# Altium integrated library Passive.IntLib: 1327 symbols (part 7 of 10)
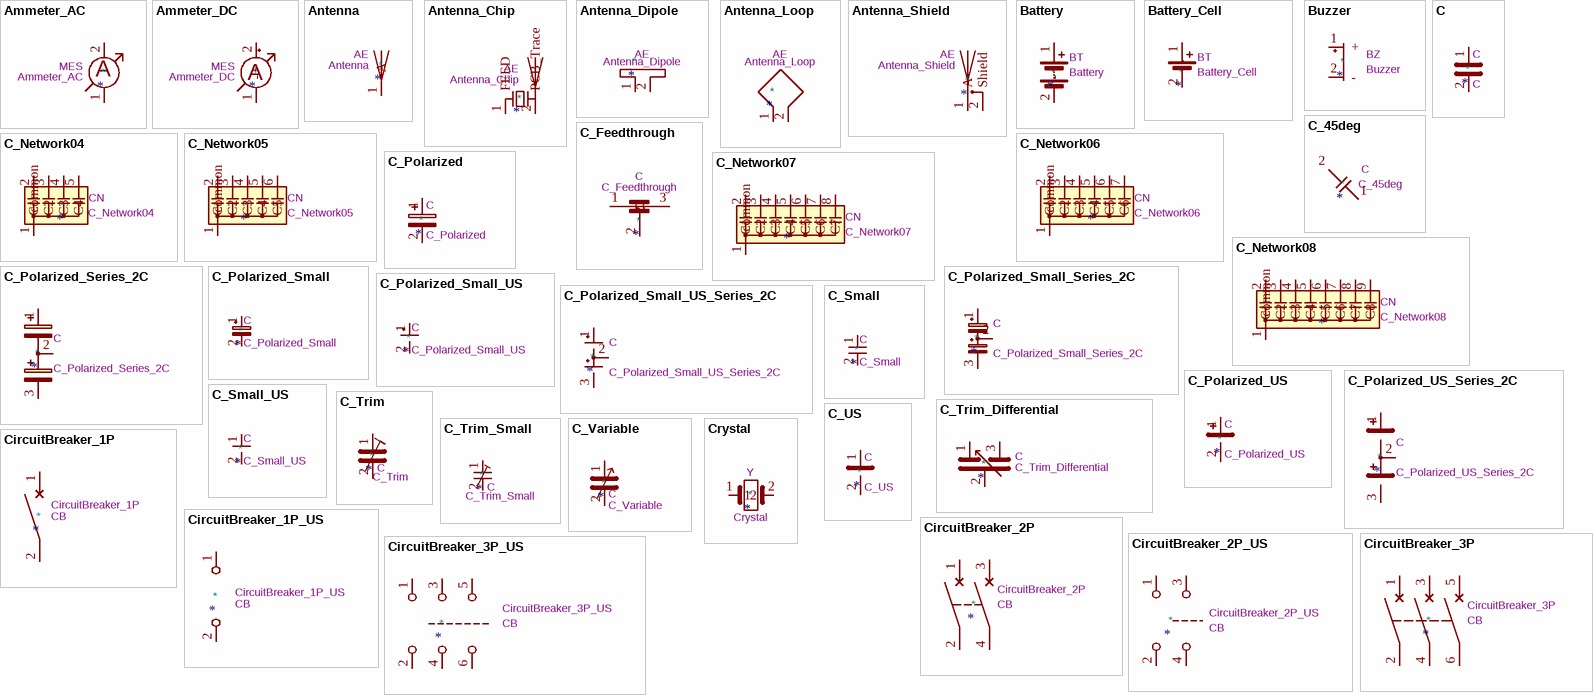
[diagram p47: symbols Ammeter_AC to Crystal]

## CircuitBreaker_1P_US
designator *  value CircuitBreaker_1P_US  Reference: CB
Single pole circuit breaker, US symbol; Datasheet: ~; Description_: Single pole circuit breaker, US symbol; ki_keywords: CB
pins: 1, 2

## CircuitBreaker_2P
designator *  value CircuitBreaker_2P  Reference: CB
Double pole circuit breaker; ki_keywords: CB 2P; Datasheet: ~; Description_: Double pole circuit breaker
pins: 1, 2, 3, 4

## CircuitBreaker_2P_US
designator *  value CircuitBreaker_2P_US  Reference: CB
Double pole circuit breaker, US symbol; ki_keywords: CB 2P; Datasheet: ~; Description_: Double pole circuit breaker, US symbol
pins: 1, 2, 3, 4

## CircuitBreaker_3P
designator *  value CircuitBreaker_3P  Reference: CB
Triple pole circuit breaker; ki_keywords: CB 3P; Datasheet: ~; Description_: Triple pole circuit breaker
pins: 1, 2, 3, 4, 5, 6

## CircuitBreaker_3P_US
designator *  value CircuitBreaker_3P_US  Reference: CB
Triple pole circuit breaker, US symbol; ki_keywords: CB 3P; Datasheet: ~; Description_: Triple pole circuit breaker, US symbol
pins: 1, 2, 3, 4, 5, 6

## Crystal
designator *  value Crystal  Reference: Y
Two pin crystal; ki_keywords: quartz ceramic resonator oscillator; ki_fp_filters: Crystal*; Datasheet: ~; Description_: Two pin crystal
pins: 1, 2

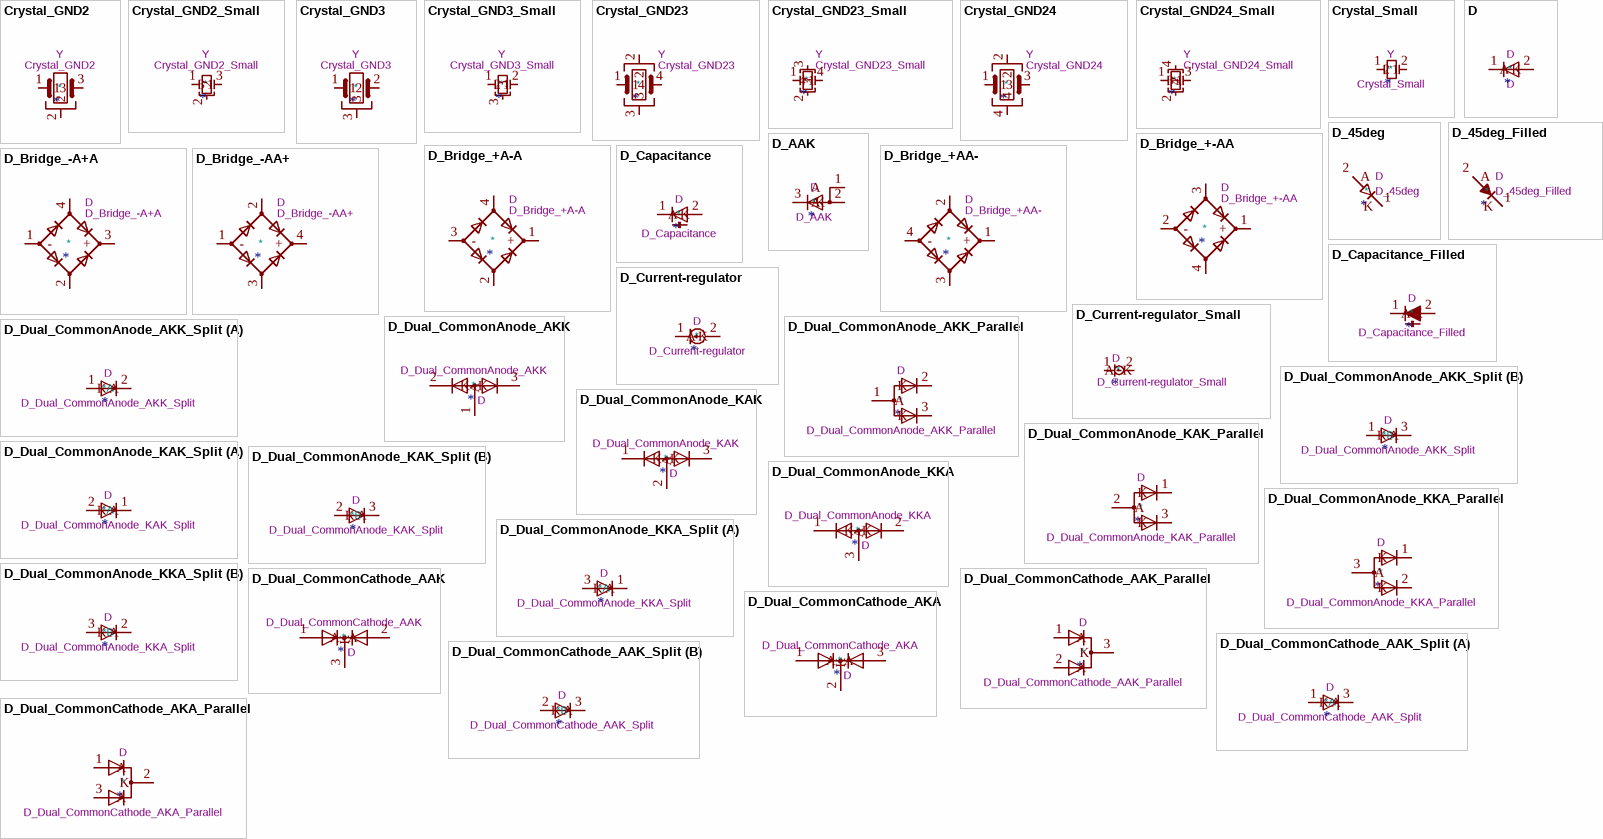
[diagram p22: symbols Crystal_GND2 to D_Dual_CommonCathode_AKA_Parallel]

## Crystal_GND2
designator *  value Crystal_GND2  Reference: Y
Three pin crystal, GND on pin 2; ki_keywords: quartz ceramic resonator oscillator; ki_fp_filters: Crystal*; Datasheet: ~; Description_: Three pin crystal, GND on pin 2
pins: 1, 2, 3

## Crystal_GND2_Small
designator *  value Crystal_GND2_Small  Reference: Y
Three pin crystal, GND on pin 2, small symbol; ki_keywords: quartz ceramic resonator oscillator; ki_fp_filters: Crystal*; Datasheet: ~; Description_: Three pin crystal, GND on pin 2, small symbol
pins: 1, 2, 3

## Crystal_GND3
designator *  value Crystal_GND3  Reference: Y
Three pin crystal, GND on pin 3; ki_keywords: quartz ceramic resonator oscillator; ki_fp_filters: Crystal*; Datasheet: ~; Description_: Three pin crystal, GND on pin 3
pins: 1, 2, 3

## Crystal_GND3_Small
designator *  value Crystal_GND3_Small  Reference: Y
Three pin crystal, GND on pin 3, small symbol; ki_keywords: quartz ceramic resonator oscillator; ki_fp_filters: Crystal*; Datasheet: ~; Description_: Three pin crystal, GND on pin 3, small symbol
pins: 1, 2, 3

## Crystal_GND23
designator *  value Crystal_GND23  Reference: Y
Four pin crystal, GND on pins 2 and 3; ki_keywords: quartz ceramic resonator oscillator; ki_fp_filters: Crystal*; Datasheet: ~; Description_: Four pin crystal, GND on pins 2 and 3
pins: 1, 2, 3, 4

## Crystal_GND23_Small
designator *  value Crystal_GND23_Small  Reference: Y
Four pin crystal, GND on pins 2 and 3, small symbol; ki_keywords: quartz ceramic resonator oscillator; ki_fp_filters: Crystal*; Datasheet: ~; Description_: Four pin crystal, GND on pins 2 and 3, small symbol
pins: 1, 2, 3, 4

## Crystal_GND24
designator *  value Crystal_GND24  Reference: Y
Four pin crystal, GND on pins 2 and 4; ki_keywords: quartz ceramic resonator oscillator; ki_fp_filters: Crystal*; Datasheet: ~; Description_: Four pin crystal, GND on pins 2 and 4
pins: 1, 2, 3, 4

## Crystal_GND24_Small
designator *  value Crystal_GND24_Small  Reference: Y
Four pin crystal, GND on pins 2 and 4, small symbol; ki_keywords: quartz ceramic resonator oscillator; ki_fp_filters: Crystal*; Datasheet: ~; Description_: Four pin crystal, GND on pins 2 and 4, small symbol
pins: 1, 2, 3, 4

## Crystal_Small
designator *  value Crystal_Small  Reference: Y
Two pin crystal, small symbol; ki_keywords: quartz ceramic resonator oscillator; ki_fp_filters: Crystal*; Datasheet: ~; Description_: Two pin crystal, small symbol
pins: 1, 2

## D
designator *  value D
Diode; Sim.Pins: 1=K 2=A; ki_fp_filters: TO-???* *_Diode_* *SingleDiode* D_*; Reference: D; Datasheet: ~; Description_: Diode; Sim.Device: D; ki_keywords: diode
pins: 1 K, 2 A

## D_45deg
designator *  value D_45deg  Reference: D
Diode, rotated by 45°; Sim.Pins: 1=K 2=A; ki_fp_filters: D*Bridge* D*Rectifier*; Datasheet: ~; Description_: Diode, rotated by 45°; Sim.Device: D; ki_keywords: Diode
pins: 1 K, 2 A

## D_45deg_Filled
designator *  value D_45deg_Filled  Reference: D
Diode, filled, rotated by 45°; Sim.Pins: 1=K 2=A; ki_fp_filters: D*Bridge* D*Rectifier*; Datasheet: ~; Description_: Diode, filled, rotated by 45°; Sim.Device: D; ki_keywords: Diode
pins: 1 K, 2 A

## D_AAK
designator *  value D_AAK  Reference: D
Diode, anode on pins 1 and 2; ki_fp_filters: TO-???* *_Diode_* *SingleDiode* D_*; Datasheet: ~; Description_: Diode, anode on pins 1 and 2; ki_keywords: diode
pins: 1 A, 2 A, 3 K

## D_Bridge_+-AA
designator *  value D_Bridge_+-AA  Reference: D
Diode bridge, +ve/-ve/AC/AC; ki_keywords: rectifier ACDC; ki_fp_filters: D*Bridge* D*Rectifier*; Datasheet: ~; Description_: Diode bridge, +ve/-ve/AC/AC
pins: 1 +, 2 -, 3, 4

## D_Bridge_+A-A
designator *  value D_Bridge_+A-A  Reference: D
Diode bridge, +ve/AC/-ve/AC; ki_keywords: rectifier ACDC; ki_fp_filters: D*Bridge* D*Rectifier*; Datasheet: ~; Description_: Diode bridge, +ve/AC/-ve/AC
pins: 1 +, 2, 3 -, 4

## D_Bridge_+AA-
designator *  value D_Bridge_+AA-  Reference: D
Diode bridge, +ve/AC/AC/-ve; ki_keywords: rectifier ACDC; ki_fp_filters: D*Bridge* D*Rectifier*; Datasheet: ~; Description_: Diode bridge, +ve/AC/AC/-ve
pins: 1 +, 2, 3, 4 -

## D_Bridge_-A+A
designator *  value D_Bridge_-A+A  Reference: D
Diode bridge, -ve/AC/+ve/AC; ki_keywords: rectifier ACDC; ki_fp_filters: D*Bridge* D*Rectifier*; Datasheet: ~; Description_: Diode bridge, -ve/AC/+ve/AC
pins: 1 -, 2, 3 +, 4

## D_Bridge_-AA+
designator *  value D_Bridge_-AA+  Reference: D
Diode bridge, -ve/AC/AC/+ve; ki_keywords: rectifier ACDC; ki_fp_filters: D*Bridge* D*Rectifier*; Datasheet: ~; Description_: Diode bridge, -ve/AC/AC/+ve
pins: 1 -, 2, 3, 4 +

## D_Capacitance
designator *  value D_Capacitance  Reference: D
Variable capacitance diode; ki_keywords: capacitance diode varicap varactor; ki_fp_filters: TO-???* *_Diode_* *SingleDiode* D_*; Datasheet: ~; Description_: Variable capacitance diode
pins: 1 K, 2 A

## D_Capacitance_Filled
designator *  value D_Capacitance_Filled  Reference: D
Variable capacitance diode, filled shape; ki_keywords: capacitance diode varicap varactor; ki_fp_filters: TO-???* *_Diode_* *SingleDiode* D_*; Datasheet: ~; Description_: Variable capacitance diode, filled shape
pins: 1 K, 2 A

## D_Current-regulator
designator *  value D_Current-regulator  Reference: D
Constant-current diode / current limiting diode / current regulator diode, IEC60747-3:2013; ki_keywords: diode constant-current current limit regulator; ki_fp_filters: TO-???* D_*; Datasheet: ~; Description_: Constant-current diode / current limiting diode / current regulator diode, IEC60747-3:2013
pins: 1 K, 2 A

## D_Current-regulator_Small
designator *  value D_Current-regulator_Small  Reference: D
Constant-current diode / current limiting diode / current regulator diode, IEC60747-3:2013, small symbol; ki_keywords: diode constant-current current limit regulator; ki_fp_filters: TO-???* D_*; Datasheet: ~; Description_: Constant-current diode / current limiting diode / current regulator diode, IEC60747-3:2013, small symbol
pins: 1 K, 2 A

## D_Dual_CommonAnode_AKK
designator *  value D_Dual_CommonAnode_AKK  Reference: D
Dual diode, common anode on pin 1; Datasheet: ~; Description_: Dual diode, common anode on pin 1; ki_keywords: diode
pins: 1 A, 2 K, 3 K

## D_Dual_CommonAnode_AKK_Parallel
designator *  value D_Dual_CommonAnode_AKK_Parallel  Reference: D
Dual diode, common anode on pin 1; Datasheet: ~; Description_: Dual diode, common anode on pin 1; ki_keywords: diode
pins: 1 A, 2 K, 3 K

## D_Dual_CommonAnode_AKK_Split
designator *  value D_Dual_CommonAnode_AKK_Split  Reference: D
Dual diode, common anode on pin 1; Datasheet: ~; Description_: Dual diode, common anode on pin 1; ki_keywords: diode
part A pins: 1 A, 2 K
part B pins: 1 A, 3 K

## D_Dual_CommonAnode_KAK
designator *  value D_Dual_CommonAnode_KAK  Reference: D
Dual diode, common anode on pin 2; Datasheet: ~; Description_: Dual diode, common anode on pin 2; ki_keywords: diode
pins: 1 K, 2 A, 3 K

## D_Dual_CommonAnode_KAK_Parallel
designator *  value D_Dual_CommonAnode_KAK_Parallel  Reference: D
Dual diode, common anode on pin 1; Datasheet: ~; Description_: Dual diode, common anode on pin 1; ki_keywords: diode
pins: 1 K, 2 A, 3 K

## D_Dual_CommonAnode_KAK_Split
designator *  value D_Dual_CommonAnode_KAK_Split  Reference: D
Dual diode, common anode on pin 1; Datasheet: ~; Description_: Dual diode, common anode on pin 1; ki_keywords: diode
part A pins: 1 K, 2 A
part B pins: 2 A, 3 K

## D_Dual_CommonAnode_KKA
designator *  value D_Dual_CommonAnode_KKA  Reference: D
Dual diode, common anode on pin 3; Datasheet: ~; Description_: Dual diode, common anode on pin 3; ki_keywords: diode
pins: 1 K, 2 K, 3 A

## D_Dual_CommonAnode_KKA_Parallel
designator *  value D_Dual_CommonAnode_KKA_Parallel  Reference: D
Dual diode, common anode on pin 1; Datasheet: ~; Description_: Dual diode, common anode on pin 1; ki_keywords: diode
pins: 1 K, 2 K, 3 A

## D_Dual_CommonAnode_KKA_Split
designator *  value D_Dual_CommonAnode_KKA_Split  Reference: D
Dual diode, common anode on pin 1; Datasheet: ~; Description_: Dual diode, common anode on pin 1; ki_keywords: diode
part A pins: 1 K, 3 A
part B pins: 2 K, 3 A

## D_Dual_CommonCathode_AAK
designator *  value D_Dual_CommonCathode_AAK  Reference: D
Dual diode, common cathode on pin 3; Datasheet: ~; Description_: Dual diode, common cathode on pin 3; ki_keywords: diode
pins: 1 A, 2 A, 3 K

## D_Dual_CommonCathode_AAK_Parallel
designator *  value D_Dual_CommonCathode_AAK_Parallel  Reference: D
Dual diode, common cathode on pin 1; Datasheet: ~; Description_: Dual diode, common cathode on pin 1; ki_keywords: diode
pins: 1 A, 2 A, 3 K

## D_Dual_CommonCathode_AAK_Split
designator *  value D_Dual_CommonCathode_AAK_Split  Reference: D
Dual diode, common cathode on pin 1; Datasheet: ~; Description_: Dual diode, common cathode on pin 1; ki_keywords: diode
part A pins: 1 A, 3 K
part B pins: 2 A, 3 K

## D_Dual_CommonCathode_AKA
designator *  value D_Dual_CommonCathode_AKA  Reference: D
Dual diode, common cathode on pin 2; Datasheet: ~; Description_: Dual diode, common cathode on pin 2; ki_keywords: diode
pins: 1 A, 2 K, 3 A

## D_Dual_CommonCathode_AKA_Parallel
designator *  value D_Dual_CommonCathode_AKA_Parallel  Reference: D
Dual diode, common cathode on pin 1; Datasheet: ~; Description_: Dual diode, common cathode on pin 1; ki_keywords: diode
pins: 1 A, 2 K, 3 A

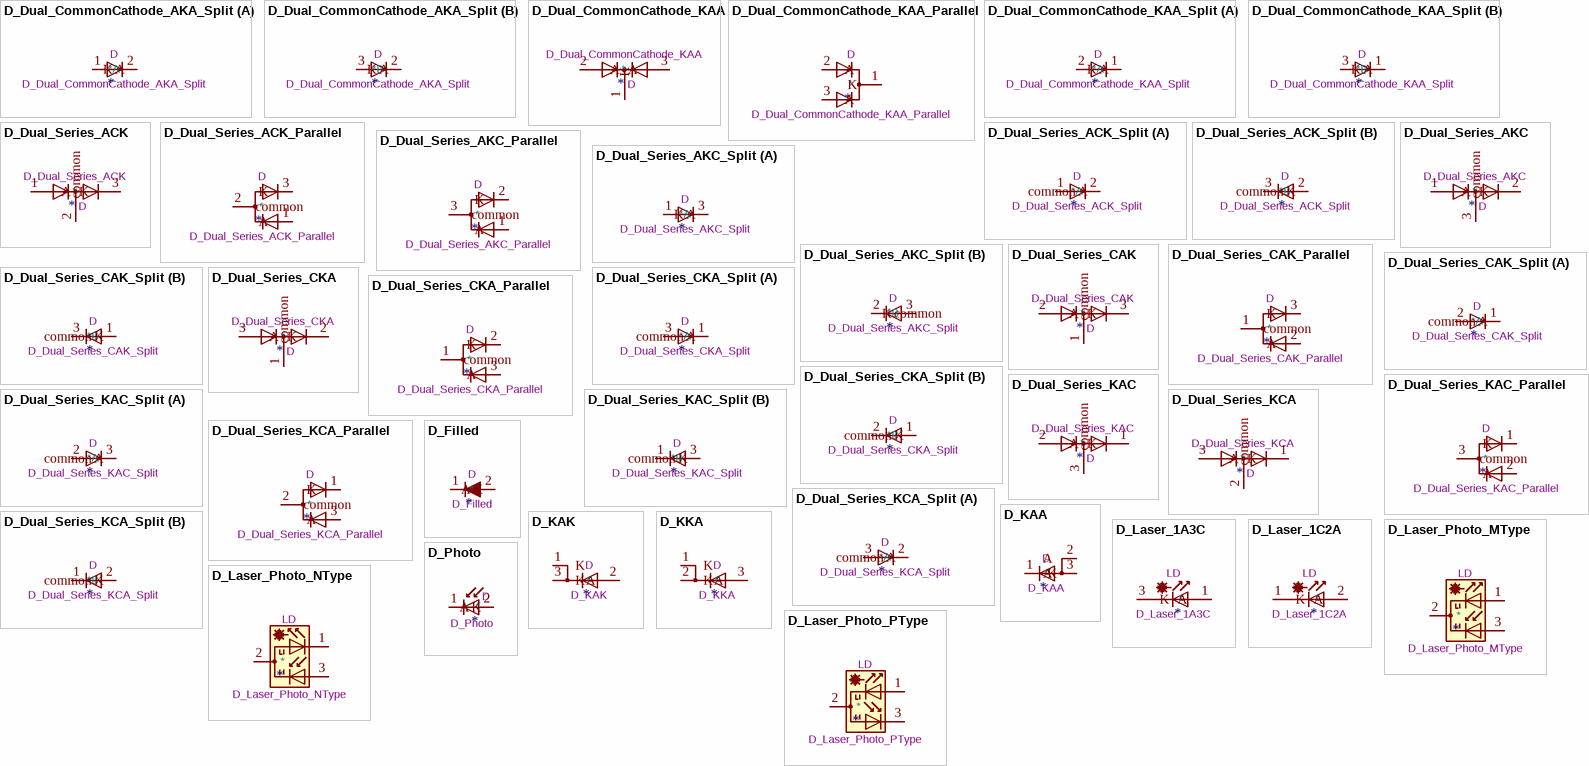
[diagram p23: symbols D_Dual_CommonCathode_AKA_Split to D_Photo]

## D_Dual_CommonCathode_AKA_Split
designator *  value D_Dual_CommonCathode_AKA_Split  Reference: D
Dual diode, common cathode on pin 1; Datasheet: ~; Description_: Dual diode, common cathode on pin 1; ki_keywords: diode
part A pins: 1 A, 2 K
part B pins: 2 K, 3 A

## D_Dual_CommonCathode_KAA
designator *  value D_Dual_CommonCathode_KAA  Reference: D
Dual diode, common cathode on pin 1; Datasheet: ~; Description_: Dual diode, common cathode on pin 1; ki_keywords: diode
pins: 1 K, 2 A, 3 A

## D_Dual_CommonCathode_KAA_Parallel
designator *  value D_Dual_CommonCathode_KAA_Parallel  Reference: D
Dual diode, common cathode on pin 1; Datasheet: ~; Description_: Dual diode, common cathode on pin 1; ki_keywords: diode
pins: 1 K, 2 A, 3 A

## D_Dual_CommonCathode_KAA_Split
designator *  value D_Dual_CommonCathode_KAA_Split  Reference: D
Dual diode, common cathode on pin 1; Datasheet: ~; Description_: Dual diode, common cathode on pin 1; ki_keywords: diode
part A pins: 1 K, 2 A
part B pins: 1 K, 3 A

## D_Dual_Series_ACK
designator *  value D_Dual_Series_ACK  Reference: D
Dual diode, anode/center/cathode; Datasheet: ~; Description_: Dual diode, anode/center/cathode; ki_keywords: diode
pins: 1 A, 2 common, 3 K

## D_Dual_Series_ACK_Parallel
designator *  value D_Dual_Series_ACK_Parallel  Reference: D
Dual diode, anode/center/cathode; Datasheet: ~; Description_: Dual diode, anode/center/cathode; ki_keywords: diode
pins: 1 A, 2 common, 3 K

## D_Dual_Series_ACK_Split
designator *  value D_Dual_Series_ACK_Split  Reference: D
Dual diode, anode/center/cathode; Datasheet: ~; Description_: Dual diode, anode/center/cathode; ki_keywords: diode
part A pins: 1 A, 2 common
part B pins: 2 common, 3 K

## D_Dual_Series_AKC
designator *  value D_Dual_Series_AKC  Reference: D
Dual diode, anode/cathode/center; Datasheet: ~; Description_: Dual diode, anode/cathode/center; ki_keywords: diode
pins: 1 A, 2 K, 3 common

## D_Dual_Series_AKC_Parallel
designator *  value D_Dual_Series_AKC_Parallel  Reference: D
Dual diode, anode/cathode/center; Datasheet: ~; Description_: Dual diode, anode/cathode/center; ki_keywords: diode
pins: 1 A, 2 K, 3 common

## D_Dual_Series_AKC_Split
designator *  value D_Dual_Series_AKC_Split  Reference: D
Dual diode, anode/cathode/center; Datasheet: ~; Description_: Dual diode, anode/cathode/center; ki_keywords: diode
part A pins: 1 A, 3 K
part B pins: 2 common, 3 K

## D_Dual_Series_CAK
designator *  value D_Dual_Series_CAK  Reference: D
Dual diode, center/anode/cathode; Datasheet: ~; Description_: Dual diode, center/anode/cathode; ki_keywords: diode
pins: 1 common, 2 A, 3 K

## D_Dual_Series_CAK_Parallel
designator *  value D_Dual_Series_CAK_Parallel  Reference: D
Dual diode, center/anode/cathode; Datasheet: ~; Description_: Dual diode, center/anode/cathode; ki_keywords: diode
pins: 1 common, 2 A, 3 K

## D_Dual_Series_CAK_Split
designator *  value D_Dual_Series_CAK_Split  Reference: D
Dual diode, center/anode/cathode; Datasheet: ~; Description_: Dual diode, center/anode/cathode; ki_keywords: diode
part A pins: 1 common, 2 A
part B pins: 1 common, 3 K

## D_Dual_Series_CKA
designator *  value D_Dual_Series_CKA  Reference: D
Dual diode, center/cathode/anode; Datasheet: ~; Description_: Dual diode, center/cathode/anode; ki_keywords: diode
pins: 1 common, 2 K, 3 A

## D_Dual_Series_CKA_Parallel
designator *  value D_Dual_Series_CKA_Parallel  Reference: D
Dual diode, center/cathode/anode; Datasheet: ~; Description_: Dual diode, center/cathode/anode; ki_keywords: diode
pins: 1 common, 2 K, 3 A

## D_Dual_Series_CKA_Split
designator *  value D_Dual_Series_CKA_Split  Reference: D
Dual diode, center/cathode/anode; Datasheet: ~; Description_: Dual diode, center/cathode/anode; ki_keywords: diode
part A pins: 1 common, 3 A
part B pins: 1 common, 2 K

## D_Dual_Series_KAC
designator *  value D_Dual_Series_KAC  Reference: D
Dual diode, cathode/anode/center; Datasheet: ~; Description_: Dual diode, cathode/anode/center; ki_keywords: diode
pins: 1 K, 2 A, 3 common

## D_Dual_Series_KAC_Parallel
designator *  value D_Dual_Series_KAC_Parallel  Reference: D
Dual diode, cathode/anode/center; Datasheet: ~; Description_: Dual diode, cathode/anode/center; ki_keywords: diode
pins: 1 K, 2 A, 3 common

## D_Dual_Series_KAC_Split
designator *  value D_Dual_Series_KAC_Split  Reference: D
Dual diode, cathode/anode/center; Datasheet: ~; Description_: Dual diode, cathode/anode/center; ki_keywords: diode
part A pins: 2 A, 3 common
part B pins: 1 K, 3 common

## D_Dual_Series_KCA
designator *  value D_Dual_Series_KCA  Reference: D
Dual diode, cathode/center/anode; Datasheet: ~; Description_: Dual diode, cathode/center/anode; ki_keywords: diode
pins: 1 K, 2 common, 3 A

## D_Dual_Series_KCA_Parallel
designator *  value D_Dual_Series_KCA_Parallel  Reference: D
Dual diode, cathode/center/anode; Datasheet: ~; Description_: Dual diode, cathode/center/anode; ki_keywords: diode
pins: 1 K, 2 common, 3 A

## D_Dual_Series_KCA_Split
designator *  value D_Dual_Series_KCA_Split  Reference: D
Dual diode, cathode/center/anode; Datasheet: ~; Description_: Dual diode, cathode/center/anode; ki_keywords: diode
part A pins: 2 common, 3 A
part B pins: 1 K, 2 common

## D_Filled
designator *  value D_Filled  Reference: D
Diode, filled shape; Sim.Pins: 1=K 2=A; ki_fp_filters: TO-???* *_Diode_* *SingleDiode* D_*; Datasheet: ~; Description_: Diode, filled shape; Sim.Device: D; ki_keywords: diode
pins: 1 K, 2 A

## D_KAA
designator *  value D_KAA  Reference: D
Diode, anode on pins 2 and 3; ki_fp_filters: TO-???* *_Diode_* *SingleDiode* D_*; Datasheet: ~; Description_: Diode, anode on pins 2 and 3; ki_keywords: diode
pins: 1 K, 2 A, 3 A

## D_KAK
designator *  value D_KAK  Reference: D
Diode, cathode on pins 1 and 3; ki_fp_filters: TO-???* *_Diode_* *SingleDiode* D_*; Datasheet: ~; Description_: Diode, cathode on pins 1 and 3; ki_keywords: diode
pins: 1 K, 2 A, 3 K

## D_KKA
designator *  value D_KKA  Reference: D
Diode, cathode on pins 1 and 2; ki_fp_filters: TO-???* *_Diode_* *SingleDiode* D_*; Datasheet: ~; Description_: Diode, cathode on pins 1 and 2; ki_keywords: diode
pins: 1 K, 2 K, 3 A

## D_Laser_1A3C
designator *  value D_Laser_1A3C  Reference: LD
Laser diode, cathode on pin 3, anode on pin 1; ki_keywords: opto laserdiode; ki_fp_filters: *LaserDiode*; Datasheet: ~; Description_: Laser diode, cathode on pin 3, anode on pin 1
pins: 1 A, 3 K

## D_Laser_1C2A
designator *  value D_Laser_1C2A  Reference: LD
Laser diode, cathode on pin 1, anode on pin 2; ki_keywords: opto laserdiode; ki_fp_filters: *LaserDiode*; Datasheet: ~; Description_: Laser diode, cathode on pin 1, anode on pin 2
pins: 1 K, 2 A

## D_Laser_Photo_MType
designator *  value D_Laser_Photo_MType  Reference: LD
Laser diode with photodiode, common cathode on pin 2; ki_keywords: opto laserdiode photodiode; ki_fp_filters: *LaserDiode*; Datasheet: http://www.egismos.disonhu.com/laser/diode-package.htm; Description_: Laser diode with photodiode, common cathode on pin 2
pins: 1, 2, 3

## D_Laser_Photo_NType
designator *  value D_Laser_Photo_NType  Reference: LD
Laser diode with photodiode, center on pin 2, LD cathode on pin 1; ki_keywords: opto laserdiode photodiode; ki_fp_filters: *LaserDiode*; Datasheet: http://www.egismos.disonhu.com/laser/diode-package.htm; Description_: Laser diode with photodiode, center on pin 2, LD cathode on pin 1
pins: 1, 2, 3

## D_Laser_Photo_PType
designator *  value D_Laser_Photo_PType  Reference: LD
Laser diode with photodiode, center on pin 2, PD cathode on pin 3; ki_keywords: opto laserdiode photodiode; ki_fp_filters: *LaserDiode*; Datasheet: http://www.egismos.disonhu.com/laser/diode-package.htm; Description_: Laser diode with photodiode, center on pin 2, PD cathode on pin 3
pins: 1, 2, 3

## D_Photo
designator *  value D_Photo  Reference: D
Photodiode; ki_keywords: photodiode diode opto; Datasheet: ~; Description_: Photodiode
pins: 1 K, 2 A

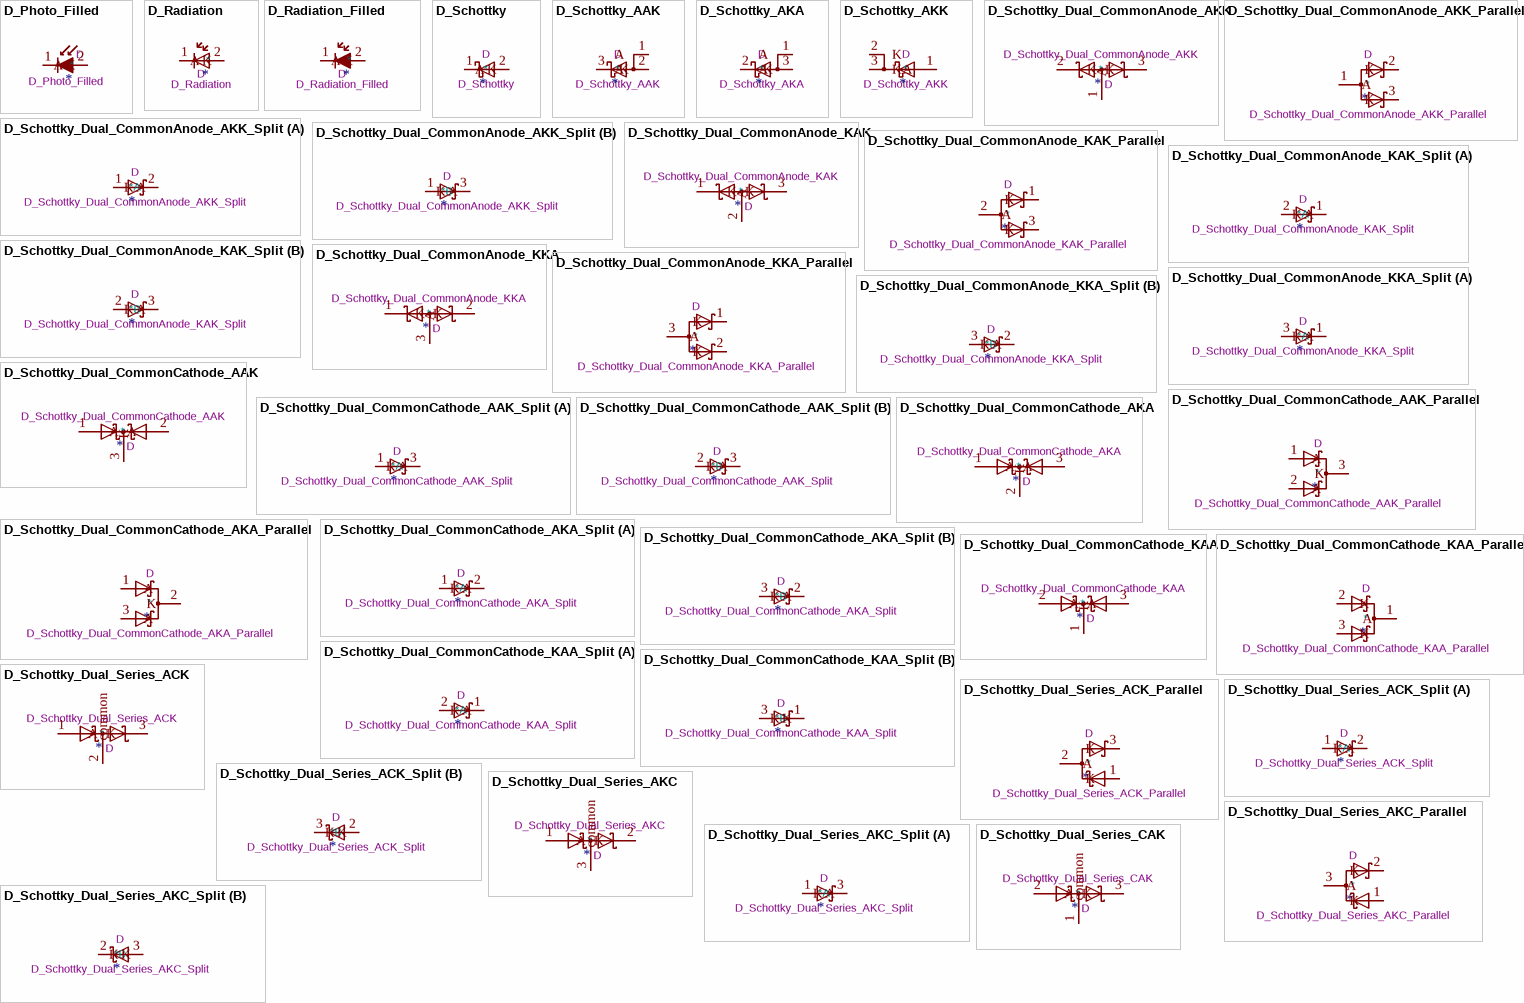
[diagram p24: symbols D_Photo_Filled to D_Schottky_Dual_Series_CAK]

## D_Photo_Filled
designator *  value D_Photo_Filled  Reference: D
Photodiode, filled shape; ki_keywords: photodiode diode opto; Datasheet: ~; Description_: Photodiode, filled shape
pins: 1 K, 2 A

## D_Radiation
designator *  value D_Radiation  Reference: D
Semiconductor radiation detector; ki_keywords: radiation detector diode; Datasheet: ~; Description_: Semiconductor radiation detector
pins: 1 K, 2 A

## D_Radiation_Filled
designator *  value D_Radiation_Filled  Reference: D
Semiconductor radiation detector, filled shape; ki_keywords: radiation detector diode; Datasheet: ~; Description_: Semiconductor radiation detector, filled shape
pins: 1 K, 2 A

## D_Schottky
designator *  value D_Schottky  Reference: D
Schottky diode; ki_keywords: diode Schottky; ki_fp_filters: TO-???* *_Diode_* *SingleDiode* D_*; Datasheet: ~; Description_: Schottky diode
pins: 1 K, 2 A

## D_Schottky_AAK
designator *  value D_Schottky_AAK  Reference: D
Schottky diode, anode on pins 1 and 2; ki_keywords: diode Schottky SCHDPAK; ki_fp_filters: TO-???* *_Diode_* *SingleDiode* D_*; Datasheet: ~; Description_: Schottky diode, anode on pins 1 and 2
pins: 1 A, 2 A, 3 K

## D_Schottky_AKA
designator *  value D_Schottky_AKA  Reference: D
Schottky diode, anode on pins 1 and 3; ki_keywords: diode Schottky SCHDPAK; ki_fp_filters: TO-???* *_Diode_* *SingleDiode* D_*; Datasheet: ~; Description_: Schottky diode, anode on pins 1 and 3
pins: 1 A, 2 K, 3 A

## D_Schottky_AKK
designator *  value D_Schottky_AKK  Reference: D
Schottky diode, cathode on pins 2 and 3; ki_keywords: diode Schottky SCHDPAK; ki_fp_filters: TO-???* *_Diode_* *SingleDiode* D_*; Datasheet: ~; Description_: Schottky diode, cathode on pins 2 and 3
pins: 1 A, 2 K, 3 K

## D_Schottky_Dual_CommonAnode_AKK
designator *  value D_Schottky_Dual_CommonAnode_AKK  Reference: D
Dual Schottky diode, common anode on pin 1; Datasheet: ~; Description_: Dual Schottky diode, common anode on pin 1; ki_keywords: diode
pins: 1 A, 2 K, 3 K

## D_Schottky_Dual_CommonAnode_AKK_Parallel
designator *  value D_Schottky_Dual_CommonAnode_AKK_Parallel  Reference: D
Dual Schottky diode, common anode on pin 1; Datasheet: ~; Description_: Dual Schottky diode, common anode on pin 1; ki_keywords: diode
pins: 1 A, 2 K, 3 K

## D_Schottky_Dual_CommonAnode_AKK_Split
designator *  value D_Schottky_Dual_CommonAnode_AKK_Split  Reference: D
Dual Schottky diode, common anode on pin 1; Datasheet: ~; Description_: Dual Schottky diode, common anode on pin 1; ki_keywords: diode
part A pins: 1 A, 2 K
part B pins: 1 A, 3 K

## D_Schottky_Dual_CommonAnode_KAK
designator *  value D_Schottky_Dual_CommonAnode_KAK  Reference: D
Dual Schottky diode, common anode on pin 2; Datasheet: ~; Description_: Dual Schottky diode, common anode on pin 2; ki_keywords: diode
pins: 1 K, 2 A, 3 K

## D_Schottky_Dual_CommonAnode_KAK_Parallel
designator *  value D_Schottky_Dual_CommonAnode_KAK_Parallel  Reference: D
Dual Schottky diode, common anode on pin 1; Datasheet: ~; Description_: Dual Schottky diode, common anode on pin 1; ki_keywords: diode
pins: 1 K, 2 A, 3 K

## D_Schottky_Dual_CommonAnode_KAK_Split
designator *  value D_Schottky_Dual_CommonAnode_KAK_Split  Reference: D
Dual Schottky diode, common anode on pin 1; Datasheet: ~; Description_: Dual Schottky diode, common anode on pin 1; ki_keywords: diode
part A pins: 1 K, 2 A
part B pins: 2 A, 3 K

## D_Schottky_Dual_CommonAnode_KKA
designator *  value D_Schottky_Dual_CommonAnode_KKA  Reference: D
Dual Schottky diode, common anode on pin 3; Datasheet: ~; Description_: Dual Schottky diode, common anode on pin 3; ki_keywords: diode
pins: 1 K, 2 K, 3 A

## D_Schottky_Dual_CommonAnode_KKA_Parallel
designator *  value D_Schottky_Dual_CommonAnode_KKA_Parallel  Reference: D
Dual Schottky diode, common anode on pin 1; Datasheet: ~; Description_: Dual Schottky diode, common anode on pin 1; ki_keywords: diode
pins: 1 K, 2 K, 3 A

## D_Schottky_Dual_CommonAnode_KKA_Split
designator *  value D_Schottky_Dual_CommonAnode_KKA_Split  Reference: D
Dual Schottky diode, common anode on pin 1; Datasheet: ~; Description_: Dual Schottky diode, common anode on pin 1; ki_keywords: diode
part A pins: 1 K, 3 A
part B pins: 2 K, 3 A

## D_Schottky_Dual_CommonCathode_AAK
designator *  value D_Schottky_Dual_CommonCathode_AAK  Reference: D
Dual Schottky diode, common cathode on pin 3; Datasheet: ~; Description_: Dual Schottky diode, common cathode on pin 3; ki_keywords: diode
pins: 1 A, 2 A, 3 K

## D_Schottky_Dual_CommonCathode_AAK_Parallel
designator *  value D_Schottky_Dual_CommonCathode_AAK_Parallel  Reference: D
Dual Schottky diode, common cathode on pin 3; Datasheet: ~; Description_: Dual Schottky diode, common cathode on pin 3; ki_keywords: diode
pins: 1 A, 2 A, 3 K

## D_Schottky_Dual_CommonCathode_AAK_Split
designator *  value D_Schottky_Dual_CommonCathode_AAK_Split  Reference: D
Dual Schottky diode, common cathode on pin 3; Datasheet: ~; Description_: Dual Schottky diode, common cathode on pin 3; ki_keywords: diode
part A pins: 1 A, 3 K
part B pins: 2 A, 3 K

## D_Schottky_Dual_CommonCathode_AKA
designator *  value D_Schottky_Dual_CommonCathode_AKA  Reference: D
Dual Schottky diode, common cathode on pin 2; Datasheet: ~; Description_: Dual Schottky diode, common cathode on pin 2; ki_keywords: diode
pins: 1 A, 2 K, 3 A

## D_Schottky_Dual_CommonCathode_AKA_Parallel
designator *  value D_Schottky_Dual_CommonCathode_AKA_Parallel  Reference: D
Dual Schottky diode, common anode on pin 1; Datasheet: ~; Description_: Dual Schottky diode, common anode on pin 1; ki_keywords: diode
pins: 1 A, 2 K, 3 A

## D_Schottky_Dual_CommonCathode_AKA_Split
designator *  value D_Schottky_Dual_CommonCathode_AKA_Split  Reference: D
Dual Schottky diode, common anode on pin 1; Datasheet: ~; Description_: Dual Schottky diode, common anode on pin 1; ki_keywords: diode
part A pins: 1 A, 2 K
part B pins: 2 K, 3 A

## D_Schottky_Dual_CommonCathode_KAA
designator *  value D_Schottky_Dual_CommonCathode_KAA  Reference: D
Dual Schottky diode, common cathode on pin 1; Datasheet: ~; Description_: Dual Schottky diode, common cathode on pin 1; ki_keywords: diode
pins: 1 K, 2 A, 3 A

## D_Schottky_Dual_CommonCathode_KAA_Parallel
designator *  value D_Schottky_Dual_CommonCathode_KAA_Parallel  Reference: D
Dual Schottky diode, common anode on pin 1; Datasheet: ~; Description_: Dual Schottky diode, common anode on pin 1; ki_keywords: diode
pins: 1 A, 2 K, 3 K

## D_Schottky_Dual_CommonCathode_KAA_Split
designator *  value D_Schottky_Dual_CommonCathode_KAA_Split  Reference: D
Dual Schottky diode, common anode on pin 1; Datasheet: ~; Description_: Dual Schottky diode, common anode on pin 1; ki_keywords: diode
part A pins: 1 K, 2 A
part B pins: 1 K, 3 K

## D_Schottky_Dual_Series_ACK
designator *  value D_Schottky_Dual_Series_ACK  Reference: D
Dual Schottky diode, anode/center/cathode; Datasheet: ~; Description_: Dual Schottky diode, anode/center/cathode; ki_keywords: diode
pins: 1 A, 2 common, 3 K

## D_Schottky_Dual_Series_ACK_Parallel
designator *  value D_Schottky_Dual_Series_ACK_Parallel  Reference: D
Dual Schottky diode, anode/center/cathode; Datasheet: ~; Description_: Dual Schottky diode, anode/center/cathode; ki_keywords: diode
pins: 1 K, 2 A, 3 K

## D_Schottky_Dual_Series_ACK_Split
designator *  value D_Schottky_Dual_Series_ACK_Split  Reference: D
Dual Schottky diode, anode/center/cathode; Datasheet: ~; Description_: Dual Schottky diode, anode/center/cathode; ki_keywords: diode
part A pins: 1 A, 2 K
part B pins: 2 K, 3 K

## D_Schottky_Dual_Series_AKC
designator *  value D_Schottky_Dual_Series_AKC  Reference: D
Dual Schottky diode, anode/cathode/center; Datasheet: ~; Description_: Dual Schottky diode, anode/cathode/center; ki_keywords: diode
pins: 1 A, 2 K, 3 common

## D_Schottky_Dual_Series_AKC_Parallel
designator *  value D_Schottky_Dual_Series_AKC_Parallel  Reference: D
Dual Schottky diode, anode/cathode/center; Datasheet: ~; Description_: Dual Schottky diode, anode/cathode/center; ki_keywords: diode
pins: 1 K, 2 K, 3 A

## D_Schottky_Dual_Series_AKC_Split
designator *  value D_Schottky_Dual_Series_AKC_Split  Reference: D
Dual Schottky diode, anode/cathode/center; Datasheet: ~; Description_: Dual Schottky diode, anode/cathode/center; ki_keywords: diode
part A pins: 1 A, 3 K
part B pins: 2 K, 3 K

## D_Schottky_Dual_Series_CAK
designator *  value D_Schottky_Dual_Series_CAK  Reference: D
Dual Schottky diode, center/anode/cathode; Datasheet: ~; Description_: Dual Schottky diode, center/anode/cathode; ki_keywords: diode
pins: 1 common, 2 A, 3 K

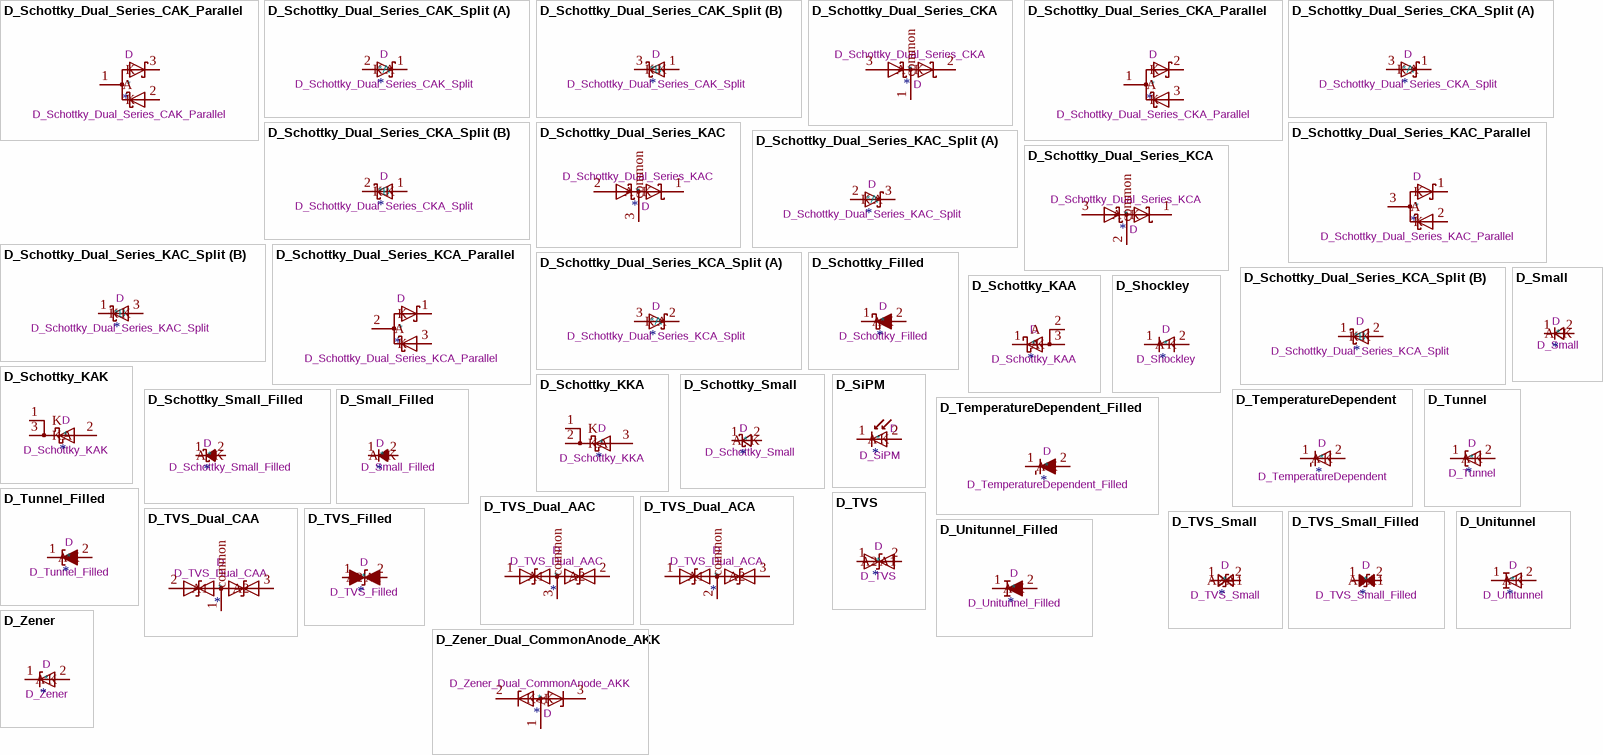
[diagram p25: symbols D_Schottky_Dual_Series_CAK_Parallel to D_Zener_Dual_CommonAnode_AKK]

## D_Schottky_Dual_Series_CAK_Parallel
designator *  value D_Schottky_Dual_Series_CAK_Parallel  Reference: D
Dual Schottky diode, center/anode/cathode; Datasheet: ~; Description_: Dual Schottky diode, center/anode/cathode; ki_keywords: diode
pins: 1 A, 2 K, 3 K

## D_Schottky_Dual_Series_CAK_Split
designator *  value D_Schottky_Dual_Series_CAK_Split  Reference: D
Dual Schottky diode, center/anode/cathode; Datasheet: ~; Description_: Dual Schottky diode, center/anode/cathode; ki_keywords: diode
part A pins: 1 K, 2 A
part B pins: 1 K, 3 K

## D_Schottky_Dual_Series_CKA
designator *  value D_Schottky_Dual_Series_CKA  Reference: D
Dual Schottky diode, center/cathode/anode; Datasheet: ~; Description_: Dual Schottky diode, center/cathode/anode; ki_keywords: diode
pins: 1 common, 2 K, 3 A

## D_Schottky_Dual_Series_CKA_Parallel
designator *  value D_Schottky_Dual_Series_CKA_Parallel  Reference: D
Dual Schottky diode, center/cathode/anode; Datasheet: ~; Description_: Dual Schottky diode, center/cathode/anode; ki_keywords: diode
pins: 1 A, 2 K, 3 K

## D_Schottky_Dual_Series_CKA_Split
designator *  value D_Schottky_Dual_Series_CKA_Split  Reference: D
Dual Schottky diode, center/cathode/anode; Datasheet: ~; Description_: Dual Schottky diode, center/cathode/anode; ki_keywords: diode
part A pins: 1 K, 3 A
part B pins: 1 K, 2 K

## D_Schottky_Dual_Series_KAC
designator *  value D_Schottky_Dual_Series_KAC  Reference: D
Dual Schottky diode, cathode/anode/center; Datasheet: ~; Description_: Dual Schottky diode, cathode/anode/center; ki_keywords: diode
pins: 1 K, 2 A, 3 common

## D_Schottky_Dual_Series_KAC_Parallel
designator *  value D_Schottky_Dual_Series_KAC_Parallel  Reference: D
Dual Schottky diode, cathode/anode/center; Datasheet: ~; Description_: Dual Schottky diode, cathode/anode/center; ki_keywords: diode
pins: 1 K, 2 K, 3 A

## D_Schottky_Dual_Series_KAC_Split
designator *  value D_Schottky_Dual_Series_KAC_Split  Reference: D
Dual Schottky diode, cathode/anode/center; Datasheet: ~; Description_: Dual Schottky diode, cathode/anode/center; ki_keywords: diode
part A pins: 2 A, 3 K
part B pins: 1 K, 3 K

## D_Schottky_Dual_Series_KCA
designator *  value D_Schottky_Dual_Series_KCA  Reference: D
Dual Schottky diode, cathode/center/anode; Datasheet: ~; Description_: Dual Schottky diode, cathode/center/anode; ki_keywords: diode
pins: 1 K, 2 common, 3 A

## D_Schottky_Dual_Series_KCA_Parallel
designator *  value D_Schottky_Dual_Series_KCA_Parallel  Reference: D
Dual Schottky diode, cathode/center/anode; Datasheet: ~; Description_: Dual Schottky diode, cathode/center/anode; ki_keywords: diode
pins: 1 K, 2 A, 3 K

## D_Schottky_Dual_Series_KCA_Split
designator *  value D_Schottky_Dual_Series_KCA_Split  Reference: D
Dual Schottky diode, cathode/center/anode; Datasheet: ~; Description_: Dual Schottky diode, cathode/center/anode; ki_keywords: diode
part A pins: 2 K, 3 A
part B pins: 1 K, 2 K

## D_Schottky_Filled
designator *  value D_Schottky_Filled  Reference: D
Schottky diode, filled shape; ki_keywords: diode Schottky; ki_fp_filters: TO-???* *_Diode_* *SingleDiode* D_*; Datasheet: ~; Description_: Schottky diode, filled shape
pins: 1 K, 2 A

## D_Schottky_KAA
designator *  value D_Schottky_KAA  Reference: D
Schottky diode, anode on pins 2 and 3; ki_keywords: diode Schottky SCHDPAK; ki_fp_filters: TO-???* *_Diode_* *SingleDiode* D_*; Datasheet: ~; Description_: Schottky diode, anode on pins 2 and 3
pins: 1 K, 2 A, 3 A

## D_Schottky_KAK
designator *  value D_Schottky_KAK  Reference: D
Schottky diode, cathode on pins 1 and 3; ki_keywords: diode Schottky SCHDPAK; ki_fp_filters: TO-???* *_Diode_* *SingleDiode* D_*; Datasheet: ~; Description_: Schottky diode, cathode on pins 1 and 3
pins: 1 K, 2 A, 3 K

## D_Schottky_KKA
designator *  value D_Schottky_KKA  Reference: D
Schottky diode, cathode on pins 1 and 2; ki_keywords: diode Schottky SCHDPAK; ki_fp_filters: TO-???* *_Diode_* *SingleDiode* D_*; Datasheet: ~; Description_: Schottky diode, cathode on pins 1 and 2
pins: 1 K, 2 K, 3 A

## D_Schottky_Small
designator *  value D_Schottky_Small  Reference: D
Schottky diode, small symbol; ki_keywords: diode Schottky; ki_fp_filters: TO-???* *_Diode_* *SingleDiode* D_*; Datasheet: ~; Description_: Schottky diode, small symbol
pins: 1 K, 2 A

## D_Schottky_Small_Filled
designator *  value D_Schottky_Small_Filled  Reference: D
Schottky diode, small symbol, filled shape; ki_keywords: diode Schottky; ki_fp_filters: TO-???* *_Diode_* *SingleDiode* D_*; Datasheet: ~; Description_: Schottky diode, small symbol, filled shape
pins: 1 K, 2 A

## D_Shockley
designator *  value D_Shockley  Reference: D
Shockley (PNPN) diode; ki_keywords: Shockley diode PNPN; ki_fp_filters: TO-???* *_Diode_* *SingleDiode* D_*; Datasheet: ~; Description_: Shockley (PNPN) diode
pins: 1 K, 2 A

## D_SiPM
designator *  value D_SiPM  Reference: D
Silicon photomultiplier; ki_keywords: SiPM MPPC SPAD photon counting; ki_fp_filters: MPPC*; Datasheet: ~; Description_: Silicon photomultiplier
pins: 1 K, 2 A

## D_Small
designator *  value D_Small  Reference: D
Diode, small symbol; Sim.Pins: 1=K 2=A; ki_fp_filters: TO-???* *_Diode_* *SingleDiode* D_*; Datasheet: ~; Description_: Diode, small symbol; Sim.Device: D; ki_keywords: diode
pins: 1 K, 2 A

## D_Small_Filled
designator *  value D_Small_Filled  Reference: D
Diode, small symbol, filled shape; Sim.Pins: 1=K 2=A; ki_fp_filters: TO-???* *_Diode_* *SingleDiode* D_*; Datasheet: ~; Description_: Diode, small symbol, filled shape; Sim.Device: D; ki_keywords: diode
pins: 1 K, 2 A

## D_TemperatureDependent
designator *  value D_TemperatureDependent  Reference: D
Temperature dependent diode; ki_keywords: temperature sensor diode; ki_fp_filters: TO-???* *_Diode_* *SingleDiode* D_*; Datasheet: ~; Description_: Temperature dependent diode
pins: 1 K, 2 A

## D_TemperatureDependent_Filled
designator *  value D_TemperatureDependent_Filled  Reference: D
Temperature dependent diode, filled shape; ki_keywords: temperature sensor diode; ki_fp_filters: TO-???* *_Diode_* *SingleDiode* D_*; Datasheet: ~; Description_: Temperature dependent diode, filled shape
pins: 1 K, 2 A

## D_Tunnel
designator *  value D_Tunnel  Reference: D
Tunnel diode (Esaki diode); ki_fp_filters: TO-???* *_Diode_* *SingleDiode* D_*; Datasheet: ~; Description_: Tunnel diode (Esaki diode); ki_keywords: tunnel diode
pins: 1 K, 2 A

## D_Tunnel_Filled
designator *  value D_Tunnel_Filled  Reference: D
Tunnel diode (Esaki diode), filled shape; ki_fp_filters: TO-???* *_Diode_* *SingleDiode* D_*; Datasheet: ~; Description_: Tunnel diode (Esaki diode), filled shape; ki_keywords: tunnel diode
pins: 1 K, 2 A

## D_TVS
designator *  value D_TVS  Reference: D
Bidirectional transient-voltage-suppression diode; ki_keywords: diode TVS thyrector; ki_fp_filters: TO-???* *_Diode_* *SingleDiode* D_*; Datasheet: ~; Description_: Bidirectional transient-voltage-suppression diode
pins: 1 A1, 2 A2

## D_TVS_Dual_AAC
designator *  value D_TVS_Dual_AAC  Reference: D
Bidirectional dual transient-voltage-suppression diode, center on pin 3; ki_keywords: diode TVS thyrector; Datasheet: ~; Description_: Bidirectional dual transient-voltage-suppression diode, center on pin 3
pins: 1 A1, 2 A2, 3 common

## D_TVS_Dual_ACA
designator *  value D_TVS_Dual_ACA  Reference: D
Bidirectional dual transient-voltage-suppression diode, center on pin 2; ki_keywords: diode TVS thyrector; Datasheet: ~; Description_: Bidirectional dual transient-voltage-suppression diode, center on pin 2
pins: 1 A1, 2 common, 3 A2

## D_TVS_Dual_CAA
designator *  value D_TVS_Dual_CAA  Reference: D
Bidirectional dual transient-voltage-suppression diode, center on pin 1; ki_keywords: diode TVS thyrector; Datasheet: ~; Description_: Bidirectional dual transient-voltage-suppression diode, center on pin 1
pins: 1 common, 2 A1, 3 A2

## D_TVS_Filled
designator *  value D_TVS_Filled  Reference: D
Bidirectional transient-voltage-suppression diode, filled shape; ki_keywords: diode TVS thyrector; ki_fp_filters: TO-???* *_Diode_* *SingleDiode* D_*; Datasheet: ~; Description_: Bidirectional transient-voltage-suppression diode, filled shape
pins: 1 A1, 2 A2

## D_TVS_Small
designator *  value D_TVS_Small  Reference: D
Bidirectional transient-voltage-suppression diode, small symbol; ki_keywords: diode TVS thyrector; ki_fp_filters: TO-???* *_Diode_* *SingleDiode* D_*; Datasheet: ~; Description_: Bidirectional transient-voltage-suppression diode, small symbol
pins: 1 A1, 2 A2

## D_TVS_Small_Filled
designator *  value D_TVS_Small_Filled  Reference: D
Bidirectional transient-voltage-suppression diode, small symbol, filled shape; ki_keywords: diode TVS thyrector; ki_fp_filters: TO-???* *_Diode_* *SingleDiode* D_*; Datasheet: ~; Description_: Bidirectional transient-voltage-suppression diode, small symbol, filled shape
pins: 1 A1, 2 A2

## D_Unitunnel
designator *  value D_Unitunnel  Reference: D
Unitunnel diode; ki_fp_filters: TO-???* *_Diode_* *SingleDiode* D_*; Datasheet: ~; Description_: Unitunnel diode; ki_keywords: unitunnel diode
pins: 1 K, 2 A

## D_Unitunnel_Filled
designator *  value D_Unitunnel_Filled  Reference: D
Unitunnel diode, filled shape; ki_fp_filters: TO-???* *_Diode_* *SingleDiode* D_*; Datasheet: ~; Description_: Unitunnel diode, filled shape; ki_keywords: unitunnel diode
pins: 1 K, 2 A

## D_Zener
designator *  value D_Zener  Reference: D
Zener diode; ki_fp_filters: TO-???* *_Diode_* *SingleDiode* D_*; Datasheet: ~; Description_: Zener diode; ki_keywords: diode
pins: 1 K, 2 A

## D_Zener_Dual_CommonAnode_AKK
designator *  value D_Zener_Dual_CommonAnode_AKK  Reference: D
Dual Zener diode, common anode on pin 1; ki_keywords: diode zener dual; ki_fp_filters: SOT* SC*; Datasheet: ~; Description_: Dual Zener diode, common anode on pin 1
pins: 1 A, 2 K, 3 K

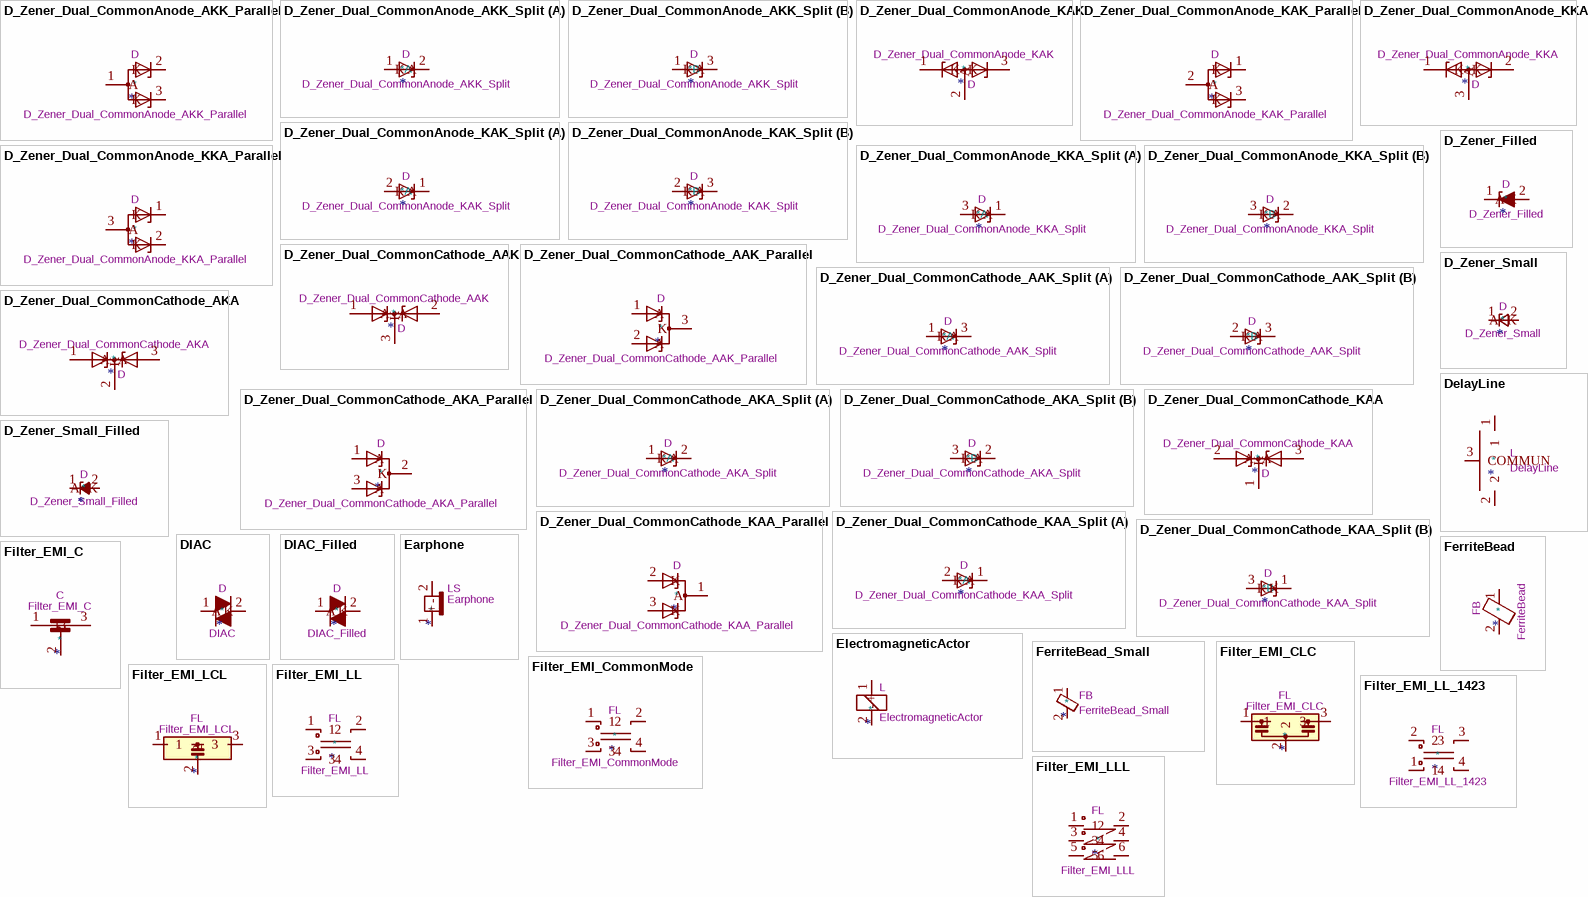
[diagram p26: symbols D_Zener_Dual_CommonAnode_AKK_Parallel to Filter_EMI_LLL]

## D_Zener_Dual_CommonAnode_AKK_Parallel
designator *  value D_Zener_Dual_CommonAnode_AKK_Parallel  Reference: D
Dual Zener diode, common anode on pin 1; Datasheet: ~; Description_: Dual Zener diode, common anode on pin 1; ki_keywords: diode
pins: 1 A, 2 K, 3 K

## D_Zener_Dual_CommonAnode_AKK_Split
designator *  value D_Zener_Dual_CommonAnode_AKK_Split  Reference: D
Dual Zener diode, common anode on pin 1; Datasheet: ~; Description_: Dual Zener diode, common anode on pin 1; ki_keywords: diode
part A pins: 1 A, 2 K
part B pins: 1 A, 3 K

## D_Zener_Dual_CommonAnode_KAK
designator *  value D_Zener_Dual_CommonAnode_KAK  Reference: D
Dual Zener diode, common anode on pin 2; ki_keywords: diode zener dual; ki_fp_filters: SOT* SC*; Datasheet: ~; Description_: Dual Zener diode, common anode on pin 2
pins: 1 K, 2 A, 3 K

## D_Zener_Dual_CommonAnode_KAK_Parallel
designator *  value D_Zener_Dual_CommonAnode_KAK_Parallel  Reference: D
Dual Zener diode, common anode on pin 1; Datasheet: ~; Description_: Dual Zener diode, common anode on pin 1; ki_keywords: diode
pins: 1 K, 2 A, 3 K

## D_Zener_Dual_CommonAnode_KAK_Split
designator *  value D_Zener_Dual_CommonAnode_KAK_Split  Reference: D
Dual Zener diode, common anode on pin 1; Datasheet: ~; Description_: Dual Zener diode, common anode on pin 1; ki_keywords: diode
part A pins: 1 K, 2 A
part B pins: 2 A, 3 K

## D_Zener_Dual_CommonAnode_KKA
designator *  value D_Zener_Dual_CommonAnode_KKA  Reference: D
Dual Zener diode, common anode on pin 3; ki_keywords: diode zener dual; ki_fp_filters: SOT* SC*; Datasheet: ~; Description_: Dual Zener diode, common anode on pin 3
pins: 1 K, 2 K, 3 A

## D_Zener_Dual_CommonAnode_KKA_Parallel
designator *  value D_Zener_Dual_CommonAnode_KKA_Parallel  Reference: D
Dual Zener diode, common anode on pin 1; Datasheet: ~; Description_: Dual Zener diode, common anode on pin 1; ki_keywords: diode
pins: 1 K, 2 K, 3 A

## D_Zener_Dual_CommonAnode_KKA_Split
designator *  value D_Zener_Dual_CommonAnode_KKA_Split  Reference: D
Dual Zener diode, common anode on pin 1; Datasheet: ~; Description_: Dual Zener diode, common anode on pin 1; ki_keywords: diode
part A pins: 1 K, 3 A
part B pins: 2 K, 3 A

## D_Zener_Dual_CommonCathode_AAK
designator *  value D_Zener_Dual_CommonCathode_AAK  Reference: D
Dual Zener diode, common cathode on pin 3; ki_keywords: diode zener dual; ki_fp_filters: SOT* SC*; Datasheet: ~; Description_: Dual Zener diode, common cathode on pin 3
pins: 1 A, 2 A, 3 K

## D_Zener_Dual_CommonCathode_AAK_Parallel
designator *  value D_Zener_Dual_CommonCathode_AAK_Parallel  Reference: D
Dual Zener diode, common cathode on pin 3; Datasheet: ~; Description_: Dual Zener diode, common cathode on pin 3; ki_keywords: diode
pins: 1 A, 2 A, 3 K

## D_Zener_Dual_CommonCathode_AAK_Split
designator *  value D_Zener_Dual_CommonCathode_AAK_Split  Reference: D
Dual Zener diode, common cathode on pin 3; Datasheet: ~; Description_: Dual Zener diode, common cathode on pin 3; ki_keywords: diode
part A pins: 1 A, 3 K
part B pins: 2 A, 3 K

## D_Zener_Dual_CommonCathode_AKA
designator *  value D_Zener_Dual_CommonCathode_AKA  Reference: D
Dual Zener diode, common cathode on pin 2; ki_keywords: diode zener dual; ki_fp_filters: SOT* SC*; Datasheet: ~; Description_: Dual Zener diode, common cathode on pin 2
pins: 1 A, 2 K, 3 A

## D_Zener_Dual_CommonCathode_AKA_Parallel
designator *  value D_Zener_Dual_CommonCathode_AKA_Parallel  Reference: D
Dual Zener diode, common anode on pin 1; Datasheet: ~; Description_: Dual Zener diode, common anode on pin 1; ki_keywords: diode
pins: 1 A, 2 K, 3 A

## D_Zener_Dual_CommonCathode_AKA_Split
designator *  value D_Zener_Dual_CommonCathode_AKA_Split  Reference: D
Dual Zener diode, common anode on pin 1; Datasheet: ~; Description_: Dual Zener diode, common anode on pin 1; ki_keywords: diode
part A pins: 1 A, 2 K
part B pins: 2 K, 3 A

## D_Zener_Dual_CommonCathode_KAA
designator *  value D_Zener_Dual_CommonCathode_KAA  Reference: D
Dual Zener diode, common cathode on pin 1; ki_keywords: diode zener dual; ki_fp_filters: SOT* SC*; Datasheet: ~; Description_: Dual Zener diode, common cathode on pin 1
pins: 1 K, 2 A, 3 A

## D_Zener_Dual_CommonCathode_KAA_Parallel
designator *  value D_Zener_Dual_CommonCathode_KAA_Parallel  Reference: D
Dual Zener diode, common anode on pin 1; Datasheet: ~; Description_: Dual Zener diode, common anode on pin 1; ki_keywords: diode
pins: 1 A, 2 K, 3 K

## D_Zener_Dual_CommonCathode_KAA_Split
designator *  value D_Zener_Dual_CommonCathode_KAA_Split  Reference: D
Dual Zener diode, common anode on pin 1; Datasheet: ~; Description_: Dual Zener diode, common anode on pin 1; ki_keywords: diode
part A pins: 1 K, 2 A
part B pins: 1 K, 3 K

## D_Zener_Filled
designator *  value D_Zener_Filled  Reference: D
Zener diode, filled shape; ki_fp_filters: TO-???* *_Diode_* *SingleDiode* D_*; Datasheet: ~; Description_: Zener diode, filled shape; ki_keywords: diode
pins: 1 K, 2 A

## D_Zener_Small
designator *  value D_Zener_Small  Reference: D
Zener diode, small symbol; ki_fp_filters: TO-???* *_Diode_* *SingleDiode* D_*; Datasheet: ~; Description_: Zener diode, small symbol; ki_keywords: diode
pins: 1 K, 2 A

## D_Zener_Small_Filled
designator *  value D_Zener_Small_Filled  Reference: D
Zener diode, small symbol, filled shape; ki_fp_filters: TO-???* *_Diode_* *SingleDiode* D_*; Datasheet: ~; Description_: Zener diode, small symbol, filled shape; ki_keywords: diode
pins: 1 K, 2 A

## DelayLine
designator *  value DelayLine  Reference: L
Delay line; ki_keywords: delay propagation retard impedance; Datasheet: ~; Description_: Delay line
pins: 1, 2, 3 COMMUN

## DIAC
designator *  value DIAC  Reference: D
Diode for alternating current; ki_keywords: AC diode DIAC; ki_fp_filters: TO-???* *_Diode_* *SingleDiode* D_*; Datasheet: ~; Description_: Diode for alternating current
pins: 1 K, 2 A

## DIAC_Filled
designator *  value DIAC_Filled  Reference: D
Diode for alternating current, filled shape; ki_keywords: AC diode DIAC; ki_fp_filters: TO-???* *_Diode_* *SingleDiode* D_*; Datasheet: ~; Description_: Diode for alternating current, filled shape
pins: 1 K, 2 A

## Earphone
designator *  value Earphone  Reference: LS
Earphone, polarized; ki_keywords: earphone speaker headphone; Datasheet: ~; Description_: Earphone, polarized
pins: 1 -, 2 +

## ElectromagneticActor
designator *  value ElectromagneticActor  Reference: L
Electromagnetic actor; ki_keywords: electromagnet coil inductor; ki_fp_filters: Inductor_* L_*; Datasheet: ~; Description_: Electromagnetic actor
pins: 1 -, 2 +

## FerriteBead
designator *  value FerriteBead  Reference: FB
Ferrite bead; ki_keywords: L ferrite bead inductor filter; ki_fp_filters: Inductor_* L_* *Ferrite*; Datasheet: ~; Description_: Ferrite bead
pins: 1, 2

## FerriteBead_Small
designator *  value FerriteBead_Small  Reference: FB
Ferrite bead, small symbol; ki_keywords: L ferrite bead inductor filter; ki_fp_filters: Inductor_* L_* *Ferrite*; Datasheet: ~; Description_: Ferrite bead, small symbol
pins: 1, 2

## Filter_EMI_C
designator *  value Filter_EMI_C  Reference: C
EMI filter, single capacitor; ki_keywords: EMI filter feedthrough capacitor; Datasheet: http://www.murata.com/~/media/webrenewal/support/library/catalog/products/emc/emifil/c31e.ashx?la=en-gb; Description_: EMI filter, single capacitor
pins: 1, 2, 3

## Filter_EMI_CLC
designator *  value Filter_EMI_CLC  Reference: FL
EMI T-filter (CLC); ki_fp_filters: Filter* Resonator*; Datasheet: http://www.murata.com/~/media/webrenewal/support/library/catalog/products/emc/emifil/c31e.ashx?la=en-gb; Description_: EMI T-filter (CLC); ki_keywords: EMI T-filter
pins: 1, 2, 3

## Filter_EMI_CommonMode
designator *  value Filter_EMI_CommonMode  Reference: FL
EMI 2-inductor common mode filter; ki_keywords: EMI common mode filter; ki_fp_filters: L_* L_CommonMode*; Datasheet: ~; Description_: EMI 2-inductor common mode filter
pins: 1, 2, 3, 4

## Filter_EMI_LCL
designator *  value Filter_EMI_LCL  Reference: FL
EMI T-filter (LCL); ki_fp_filters: Filter* Resonator*; Datasheet: http://www.murata.com/~/media/webrenewal/support/library/catalog/products/emc/emifil/c31e.ashx?la=en-gb; Description_: EMI T-filter (LCL); ki_keywords: EMI T-filter
pins: 1, 2, 3

## Filter_EMI_LL
designator *  value Filter_EMI_LL  Reference: FL
EMI 2-inductor filter; ki_keywords: EMI filter; ki_fp_filters: L_* L_CommonMode*; Datasheet: ~; Description_: EMI 2-inductor filter
pins: 1, 2, 3, 4

## Filter_EMI_LL_1423
designator *  value Filter_EMI_LL_1423  Reference: FL
EMI 2-inductor filter, pin-connections 1-4 and 2-3; ki_keywords: EMI filter common-mode choke; ki_fp_filters: Bourns*SRF0905*; Datasheet: ~; Description_: EMI 2-inductor filter, pin-connections 1-4 and 2-3
pins: 1, 2, 3, 4

## Filter_EMI_LLL
designator *  value Filter_EMI_LLL  Reference: FL
EMI 3-inductor filter; ki_keywords: three phase common mode choke; ki_fp_filters: L* L_CommonMode*; Datasheet: ~; Description_: EMI 3-inductor filter
pins: 1, 2, 3, 4, 5, 6

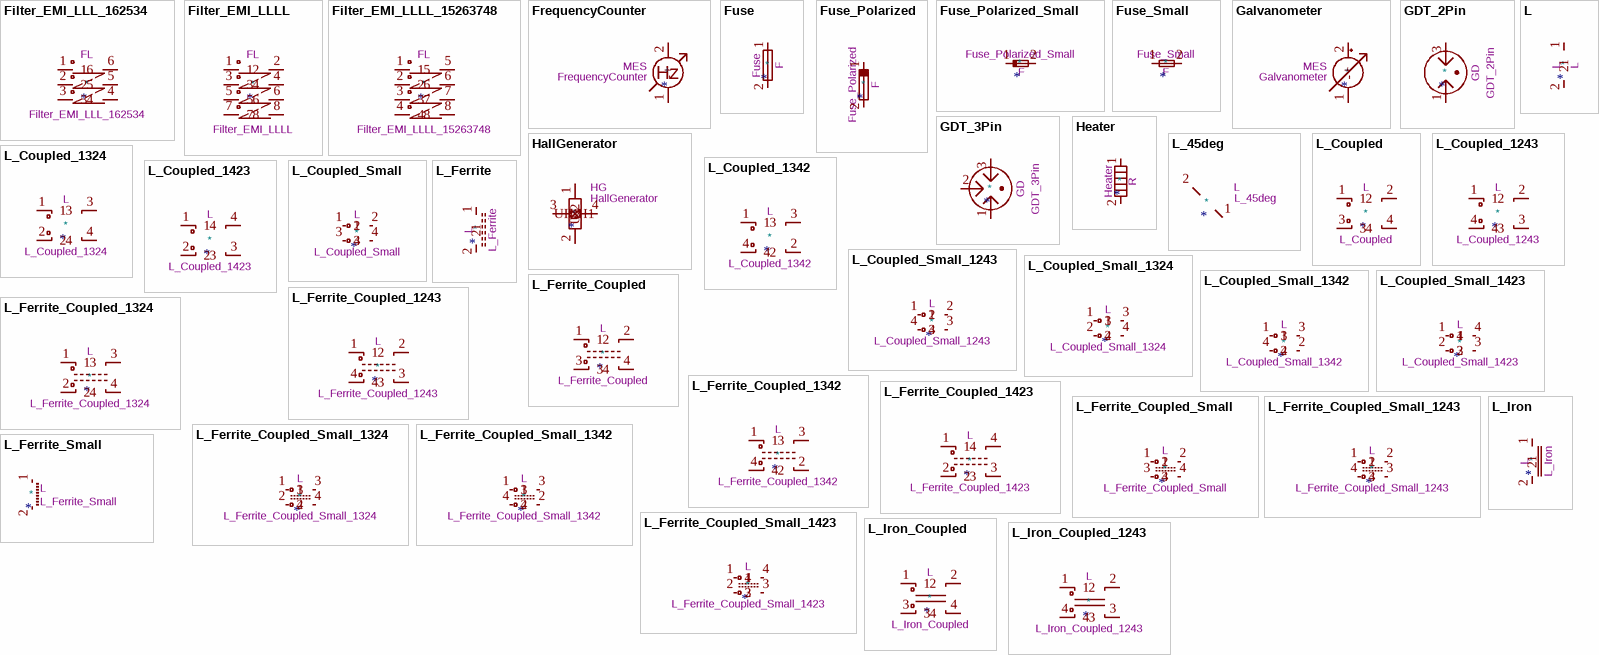
[diagram p27: symbols Filter_EMI_LLL_162534 to L_Iron_Coupled_1243]

## Filter_EMI_LLL_162534
designator *  value Filter_EMI_LLL_162534  Reference: FL
EMI 3-inductor filter; ki_keywords: three phase common mode choke; ki_fp_filters: L* L_CommonMode*; Datasheet: ~; Description_: EMI 3-inductor filter
pins: 1, 2, 3, 4, 5, 6

## Filter_EMI_LLLL
designator *  value Filter_EMI_LLLL  Reference: FL
EMI 4-inductor filter; ki_keywords: common mode quadruple choke quad coil; ki_fp_filters: L* L_CommonMode*; Datasheet: ~; Description_: EMI 4-inductor filter
pins: 1, 2, 3, 4, 5, 6, 7, 8

## Filter_EMI_LLLL_15263748
designator *  value Filter_EMI_LLLL_15263748  Reference: FL
EMI 4-inductor filter; ki_keywords: common mode quadruple choke quad coil; ki_fp_filters: L* L_CommonMode*; Datasheet: ~; Description_: EMI 4-inductor filter
pins: 1, 2, 3, 4, 5, 6, 7, 8

## FrequencyCounter
designator *  value FrequencyCounter  Reference: MES
Frequency counter; Datasheet: ~; Description_: Frequency counter; ki_keywords: frequency counter
pins: 1 -, 2 +
text: Hz

## Fuse
designator *  value Fuse  Reference: F
Fuse; ki_fp_filters: *Fuse*; Datasheet: ~; Description_: Fuse; ki_keywords: fuse
pins: 1, 2

## Fuse_Polarized
designator *  value Fuse_Polarized  Reference: F
Polarized fuse; ki_fp_filters: *Fuse*; Datasheet: ~; Description_: Polarized fuse; ki_keywords: fuse
pins: 1, 2

## Fuse_Polarized_Small
designator *  value Fuse_Polarized_Small  Reference: F
Polarized fuse, small symbol; ki_fp_filters: *Fuse*; Datasheet: ~; Description_: Polarized fuse, small symbol; ki_keywords: fuse
pins: 1, 2

## Fuse_Small
designator *  value Fuse_Small  Reference: F
Fuse, small symbol; ki_fp_filters: *Fuse*; Datasheet: ~; Description_: Fuse, small symbol; ki_keywords: fuse
pins: 1, 2

## Galvanometer
designator *  value Galvanometer  Reference: MES
Galvanometer; Datasheet: ~; Description_: Galvanometer; ki_keywords: galvanometer
pins: 1 -, 2 +

## GDT_2Pin
designator *  value GDT_2Pin  Reference: GD
Gas Discharge Tube with 2 Pins; ki_keywords: gdt; Datasheet: ~; Description_: Gas Discharge Tube with 2 Pins
pins: 1, 3

## GDT_3Pin
designator *  value GDT_3Pin  Reference: GD
Gas Discharge Tube with 3 Pins; ki_keywords: gdt; Datasheet: ~; Description_: Gas Discharge Tube with 3 Pins
pins: 1, 2, 3

## HallGenerator
designator *  value HallGenerator  Reference: HG
Hall effect generator; ki_keywords: Hall generator magnet; Datasheet: ~; Description_: Hall effect generator
pins: 1 U1, 2 U2, 3 UH1, 4 UH2

## Heater
designator *  value Heater  Reference: R
Resistive heater; ki_keywords: heater R resistor; Datasheet: ~; Description_: Resistive heater
pins: 1, 2

## L
designator *  value L
Inductor; ki_keywords: inductor choke coil reactor magnetic; ki_fp_filters: Choke_* *Coil* Inductor_* L_*; Reference: L; Datasheet: ~; Description_: Inductor
pins: 1, 2

## L_45deg
designator *  value L_45deg  Reference: L
Inductor, rotated by 45°; ki_keywords: inductor choke coil reactor magnetic inductor; ki_fp_filters: L_* Choke_* Inductor_* *Coil*; Datasheet: ~; Description_: Inductor, rotated by 45°
pins: 1, 2

## L_Coupled
designator *  value L_Coupled  Reference: L
Coupled inductor; ki_keywords: inductor choke coil reactor magnetic coupled; ki_fp_filters: Choke_* *Coil* Inductor_* L_*; Datasheet: ~; Description_: Coupled inductor
pins: 1, 2, 3, 4

## L_Coupled_1243
designator *  value L_Coupled_1243  Reference: L
Coupled inductor; ki_keywords: inductor choke coil reactor magnetic coupled; ki_fp_filters: Choke_* *Coil* Inductor_* L_*; Datasheet: ~; Description_: Coupled inductor
pins: 1, 2, 3, 4